# Altium integrated library WE-VS_rev15b.intlib: 55 symbols
Pins are listed as number, name and electrical type; pins without a type are passive.

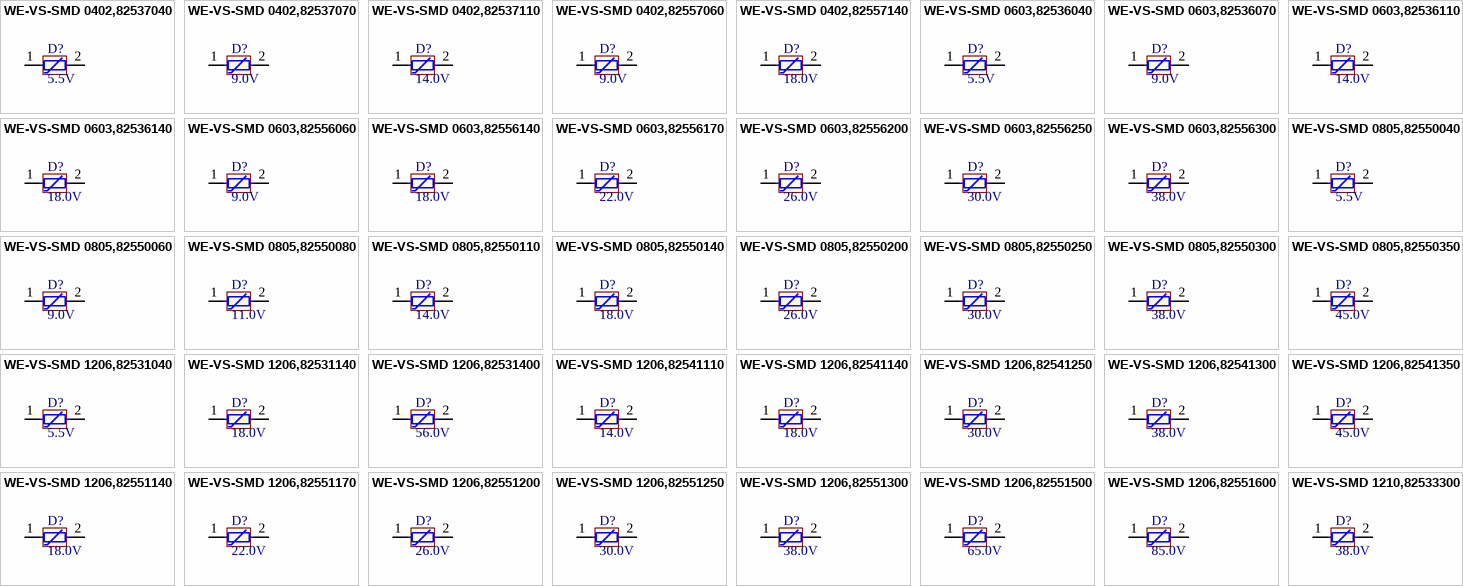
[diagram p0: symbols WE-VS-SMD 0402,82537040 to WE-VS-SMD 1210,82533300]

## WE-VS-SMD 0402,82537040
designator D?, comment 5.5V
ESD Suppressor WE-VS-SMD, VDC=5.5V; PartNo: 82537040; Manufacturer: Würth Elektronik eiSos GmbH; Reverse Stand Off Voltage: 5.5V; ComponentLink1Description: Manufacturer; ComponentLink1URL: http://www.we-online.de; Created by: Christin Zierenner; Created Date: March 2010; ComponentLink2Description: Datasheet; ComponentLink2URL: http://katalog.we-online.de/kataloge/eisos/media/pdf/82537040.pdf
footprint 0402 (0402, 2-Leads, Body 2.3x0.7mm, Pitch 1.4mm)
pins: 1 I/O1, 2 I/O1

## WE-VS-SMD 0402,82537070
designator D?, comment 9.0V
ESD Suppressor WE-VS-SMD, VDC=9.0V; PartNo: 82537070; Manufacturer: Würth Elektronik eiSos GmbH; Reverse Stand Off Voltage: 9.0V; ComponentLink1Description: Manufacturer; ComponentLink1URL: http://www.we-online.de; Created by: Christin Zierenner; Created Date: March 2010; ComponentLink2Description: Datasheet; ComponentLink2URL: http://katalog.we-online.de/kataloge/eisos/media/pdf/82537070.pdf
footprint 0402 (0402, 2-Leads, Body 2.3x0.7mm, Pitch 1.4mm)
pins: 1 I/O1, 2 I/O1

## WE-VS-SMD 0402,82537110
designator D?, comment 14.0V
ESD Suppressor WE-VS-SMD, VDC=14.0V; PartNo: 82537110; Manufacturer: Würth Elektronik eiSos GmbH; Reverse Stand Off Voltage: 14.0V; ComponentLink1Description: Manufacturer; ComponentLink1URL: http://www.we-online.de; Created by: Christin Zierenner; Created Date: March 2010; ComponentLink2Description: Datasheet; ComponentLink2URL: http://katalog.we-online.de/kataloge/eisos/media/pdf/82537110.pdf
footprint 0402 (0402, 2-Leads, Body 2.3x0.7mm, Pitch 1.4mm)
pins: 1 I/O1, 2 I/O1

## WE-VS-SMD 0402,82557060
designator D?, comment 9.0V
ESD Suppressor WE-VS-SMD, VDC=9.0V; PartNo: 82557060; Manufacturer: Würth Elektronik eiSos GmbH; Reverse Stand Off Voltage: 9.0V; ComponentLink1Description: Manufacturer; ComponentLink1URL: http://www.we-online.de; Created by: Christin Zierenner; Created Date: March 2010; ComponentLink2Description: Datasheet; ComponentLink2URL: http://katalog.we-online.de/kataloge/eisos/media/pdf/82557060.pdf
footprint 0402 (0402, 2-Leads, Body 2.3x0.7mm, Pitch 1.4mm)
pins: 1 I/O1, 2 I/O1

## WE-VS-SMD 0402,82557140
designator D?, comment 18.0V
ESD Suppressor WE-VS-SMD, VDC=18.0V; PartNo: 82557140; Manufacturer: Würth Elektronik eiSos GmbH; Reverse Stand Off Voltage: 18.0V; ComponentLink1Description: Manufacturer; ComponentLink1URL: http://www.we-online.de; Created by: Christin Zierenner; Created Date: March 2010; ComponentLink2Description: Datasheet; ComponentLink2URL: http://katalog.we-online.de/kataloge/eisos/media/pdf/82557140.pdf
footprint 0402 (0402, 2-Leads, Body 2.3x0.7mm, Pitch 1.4mm)
pins: 1 I/O1, 2 I/O1

## WE-VS-SMD 0603,82536040
designator D?, comment 5.5V
ESD Suppressor WE-VS-SMD, VDC=5.5V; PartNo: 82536040; Manufacturer: Würth Elektronik eiSos GmbH; Reverse Stand Off Voltage: 5.5V; ComponentLink1Description: Manufacturer; ComponentLink1URL: http://www.we-online.de; Created by: Christin Zierenner; Created Date: March 2010; ComponentLink2Description: Datasheet; ComponentLink2URL: http://katalog.we-online.de/kataloge/eisos/media/pdf/82536040.pdf
footprint 0603 (0603, 2-Leads, Body 3.6x1.4mm, Pitch 2.3mm)
pins: 1 I/O1, 2 I/O1

## WE-VS-SMD 0603,82536070
designator D?, comment 9.0V
ESD Suppressor WE-VS-SMD, VDC=9.0V; PartNo: 82536070; Manufacturer: Würth Elektronik eiSos GmbH; Reverse Stand Off Voltage: 9.0V; ComponentLink1Description: Manufacturer; ComponentLink1URL: http://www.we-online.de; Created by: Christin Zierenner; Created Date: March 2010; ComponentLink2Description: Datasheet; ComponentLink2URL: http://katalog.we-online.de/kataloge/eisos/media/pdf/82536070.pdf
footprint 0603 (0603, 2-Leads, Body 3.6x1.4mm, Pitch 2.3mm)
pins: 1 I/O1, 2 I/O1

## WE-VS-SMD 0603,82536110
designator D?, comment 14.0V
ESD Suppressor WE-VS-SMD, VDC=14.0V; PartNo: 82536110; Manufacturer: Würth Elektronik eiSos GmbH; Reverse Stand Off Voltage: 14.0V; ComponentLink1Description: Manufacturer; ComponentLink1URL: http://www.we-online.de; Created by: Christin Zierenner; Created Date: March 2010; ComponentLink2Description: Datasheet; ComponentLink2URL: http://katalog.we-online.de/kataloge/eisos/media/pdf/82536110.pdf
footprint 0603 (0603, 2-Leads, Body 3.6x1.4mm, Pitch 2.3mm)
pins: 1 I/O1, 2 I/O1

## WE-VS-SMD 0603,82536140
designator D?, comment 18.0V
ESD Suppressor WE-VS-SMD, VDC=18.0V; PartNo: 82536140; Manufacturer: Würth Elektronik eiSos GmbH; Reverse Stand Off Voltage: 18.0V; ComponentLink1Description: Manufacturer; ComponentLink1URL: http://www.we-online.de; Created by: Christin Zierenner; Created Date: March 2010; ComponentLink2Description: Datasheet; ComponentLink2URL: http://katalog.we-online.de/kataloge/eisos/media/pdf/82536140.pdf
footprint 0603 (0603, 2-Leads, Body 3.6x1.4mm, Pitch 2.3mm)
pins: 1 I/O1, 2 I/O1

## WE-VS-SMD 0603,82556060
designator D?, comment 9.0V
ESD Suppressor WE-VS-SMD, VDC=9.0V; PartNo: 82556060; Manufacturer: Würth Elektronik eiSos GmbH; Reverse Stand Off Voltage: 9.0V; ComponentLink1Description: Manufacturer; ComponentLink1URL: http://www.we-online.de; Created by: Christin Zierenner; Created Date: March 2010; ComponentLink2Description: Datasheet; ComponentLink2URL: http://katalog.we-online.de/kataloge/eisos/media/pdf/82556060.pdf
footprint 0603 (0603, 2-Leads, Body 3.6x1.4mm, Pitch 2.3mm)
pins: 1 I/O1, 2 I/O1

## WE-VS-SMD 0603,82556140
designator D?, comment 18.0V
ESD Suppressor WE-VS-SMD, VDC=18.0V; PartNo: 82556140; Manufacturer: Würth Elektronik eiSos GmbH; Reverse Stand Off Voltage: 18.0V; ComponentLink1Description: Manufacturer; ComponentLink1URL: http://www.we-online.de; Created by: Christin Zierenner; Created Date: March 2010; ComponentLink2Description: Datasheet; ComponentLink2URL: http://katalog.we-online.de/kataloge/eisos/media/pdf/82556140.pdf
footprint 0603 (0603, 2-Leads, Body 3.6x1.4mm, Pitch 2.3mm)
pins: 1 I/O1, 2 I/O1

## WE-VS-SMD 0603,82556170
designator D?, comment 22.0V
ESD Suppressor WE-VS-SMD, VDC=22.0V; PartNo: 82556170; Manufacturer: Würth Elektronik eiSos GmbH; Reverse Stand Off Voltage: 22.0V; ComponentLink1Description: Manufacturer; ComponentLink1URL: http://www.we-online.de; Created by: Christin Zierenner; Created Date: March 2010; ComponentLink2Description: Datasheet; ComponentLink2URL: http://katalog.we-online.de/kataloge/eisos/media/pdf/82556170.pdf
footprint 0603 (0603, 2-Leads, Body 3.6x1.4mm, Pitch 2.3mm)
pins: 1 I/O1, 2 I/O1

## WE-VS-SMD 0603,82556200
designator D?, comment 26.0V
ESD Suppressor WE-VS-SMD, VDC=26.0V; PartNo: 82556200; Manufacturer: Würth Elektronik eiSos GmbH; Reverse Stand Off Voltage: 26.0V; ComponentLink1Description: Manufacturer; ComponentLink1URL: http://www.we-online.de; Created by: Christin Zierenner; Created Date: March 2010; ComponentLink2Description: Datasheet; ComponentLink2URL: http://katalog.we-online.de/kataloge/eisos/media/pdf/82556200.pdf
footprint 0603 (0603, 2-Leads, Body 3.6x1.4mm, Pitch 2.3mm)
pins: 1 I/O1, 2 I/O1

## WE-VS-SMD 0603,82556250
designator D?, comment 30.0V
ESD Suppressor WE-VS-SMD, VDC=30.0V; PartNo: 82556250; Manufacturer: Würth Elektronik eiSos GmbH; Reverse Stand Off Voltage: 30.0V; ComponentLink1Description: Manufacturer; ComponentLink1URL: http://www.we-online.de; Created by: Christin Zierenner; Created Date: March 2010; ComponentLink2Description: Datasheet; ComponentLink2URL: http://katalog.we-online.de/kataloge/eisos/media/pdf/82556250.pdf
footprint 0603 (0603, 2-Leads, Body 3.6x1.4mm, Pitch 2.3mm)
pins: 1 I/O1, 2 I/O1

## WE-VS-SMD 0603,82556300
designator D?, comment 38.0V
ESD Suppressor WE-VS-SMD, VDC=38.0V; PartNo: 82556300; Manufacturer: Würth Elektronik eiSos GmbH; Reverse Stand Off Voltage: 38.0V; ComponentLink1Description: Manufacturer; ComponentLink1URL: http://www.we-online.de; Created by: Christin Zierenner; Created Date: March 2010; ComponentLink2Description: Datasheet; ComponentLink2URL: http://katalog.we-online.de/kataloge/eisos/media/pdf/82556300.pdf
footprint 0603 (0603, 2-Leads, Body 3.6x1.4mm, Pitch 2.3mm)
pins: 1 I/O1, 2 I/O1

## WE-VS-SMD 0805,82550040
designator D?, comment 5.5V
ESD Suppressor WE-VS-SMD, VDC=5.5V; PartNo: 82550040; Manufacturer: Würth Elektronik eiSos GmbH; Reverse Stand Off Voltage: 5.5V; ComponentLink1Description: Manufacturer; ComponentLink1URL: http://www.we-online.de; Created by: Christin Zierenner; Created Date: March 2010; ComponentLink2Description: Datasheet; ComponentLink2URL: http://katalog.we-online.de/kataloge/eisos/media/pdf/82550040.pdf
footprint 0805 (0805, 2-Leads, Body 4.7x1.8mm, Pitch 3mm)
pins: 1 I/O1, 2 I/O1

## WE-VS-SMD 0805,82550060
designator D?, comment 9.0V
ESD Suppressor WE-VS-SMD, VDC=9.0V; PartNo: 82550060; Manufacturer: Würth Elektronik eiSos GmbH; Reverse Stand Off Voltage: 9.0V; ComponentLink1Description: Manufacturer; ComponentLink1URL: http://www.we-online.de; Created by: Christin Zierenner; Created Date: March 2010; ComponentLink2Description: Datasheet; ComponentLink2URL: http://katalog.we-online.de/kataloge/eisos/media/pdf/82550060.pdf
footprint 0805 (0805, 2-Leads, Body 4.7x1.8mm, Pitch 3mm)
pins: 1 I/O1, 2 I/O1

## WE-VS-SMD 0805,82550080
designator D?, comment 11.0V
ESD Suppressor WE-VS-SMD, VDC=11.0V; PartNo: 82550080; Manufacturer: Würth Elektronik eiSos GmbH; Reverse Stand Off Voltage: 11.0V; ComponentLink1Description: Manufacturer; ComponentLink1URL: http://www.we-online.de; Created by: Christin Zierenner; Created Date: March 2010; ComponentLink2Description: Datasheet; ComponentLink2URL: http://katalog.we-online.de/kataloge/eisos/media/pdf/82550080.pdf
footprint 0805 (0805, 2-Leads, Body 4.7x1.8mm, Pitch 3mm)
pins: 1 I/O1, 2 I/O1

## WE-VS-SMD 0805,82550110
designator D?, comment 14.0V
ESD Suppressor WE-VS-SMD, VDC=14.0V; PartNo: 82550110; Manufacturer: Würth Elektronik eiSos GmbH; Reverse Stand Off Voltage: 14.0V; ComponentLink1Description: Manufacturer; ComponentLink1URL: http://www.we-online.de; Created by: Christin Zierenner; Created Date: March 2010; ComponentLink2Description: Datasheet; ComponentLink2URL: http://katalog.we-online.de/kataloge/eisos/media/pdf/82550110.pdf
footprint 0805 (0805, 2-Leads, Body 4.7x1.8mm, Pitch 3mm)
pins: 1 I/O1, 2 I/O1

## WE-VS-SMD 0805,82550140
designator D?, comment 18.0V
ESD Suppressor WE-VS-SMD, VDC=18.0V; PartNo: 82550140; Manufacturer: Würth Elektronik eiSos GmbH; Reverse Stand Off Voltage: 18.0V; ComponentLink1Description: Manufacturer; ComponentLink1URL: http://www.we-online.de; Created by: Christin Zierenner; Created Date: March 2010; ComponentLink2Description: Datasheet; ComponentLink2URL: http://katalog.we-online.de/kataloge/eisos/media/pdf/82550140.pdf
footprint 0805 (0805, 2-Leads, Body 4.7x1.8mm, Pitch 3mm)
pins: 1 I/O1, 2 I/O1

## WE-VS-SMD 0805,82550200
designator D?, comment 26.0V
ESD Suppressor WE-VS-SMD, VDC=26.0V; PartNo: 82550200; Manufacturer: Würth Elektronik eiSos GmbH; Reverse Stand Off Voltage: 26.0V; ComponentLink1Description: Manufacturer; ComponentLink1URL: http://www.we-online.de; Created by: Christin Zierenner; Created Date: March 2010; ComponentLink2Description: Datasheet; ComponentLink2URL: http://katalog.we-online.de/kataloge/eisos/media/pdf/82550200.pdf
footprint 0805 (0805, 2-Leads, Body 4.7x1.8mm, Pitch 3mm)
pins: 1 I/O1, 2 I/O1

## WE-VS-SMD 0805,82550250
designator D?, comment 30.0V
ESD Suppressor WE-VS-SMD, VDC=30.0V; PartNo: 82550250; Manufacturer: Würth Elektronik eiSos GmbH; Reverse Stand Off Voltage: 30.0V; ComponentLink1Description: Manufacturer; ComponentLink1URL: http://www.we-online.de; Created by: Christin Zierenner; Created Date: March 2010; ComponentLink2Description: Datasheet; ComponentLink2URL: http://katalog.we-online.de/kataloge/eisos/media/pdf/82550250.pdf
footprint 0805 (0805, 2-Leads, Body 4.7x1.8mm, Pitch 3mm)
pins: 1 I/O1, 2 I/O1

## WE-VS-SMD 0805,82550300
designator D?, comment 38.0V
ESD Suppressor WE-VS-SMD, VDC=38.0V; PartNo: 82550300; Manufacturer: Würth Elektronik eiSos GmbH; Reverse Stand Off Voltage: 38.0V; ComponentLink1Description: Manufacturer; ComponentLink1URL: http://www.we-online.de; Created by: Christin Zierenner; Created Date: March 2010; ComponentLink2Description: Datasheet; ComponentLink2URL: http://katalog.we-online.de/kataloge/eisos/media/pdf/82550300.pdf
footprint 0805 (0805, 2-Leads, Body 4.7x1.8mm, Pitch 3mm)
pins: 1 I/O1, 2 I/O1

## WE-VS-SMD 0805,82550350
designator D?, comment 45.0V
ESD Suppressor WE-VS-SMD, VDC=45.0V; PartNo: 82550350; Manufacturer: Würth Elektronik eiSos GmbH; Reverse Stand Off Voltage: 45.0V; ComponentLink1Description: Manufacturer; ComponentLink1URL: http://www.we-online.de; Created by: Christin Zierenner; Created Date: March 2010; ComponentLink2Description: Datasheet; ComponentLink2URL: http://katalog.we-online.de/kataloge/eisos/media/pdf/82550350.pdf
footprint 0805 (0805, 2-Leads, Body 4.7x1.8mm, Pitch 3mm)
pins: 1 I/O1, 2 I/O1

## WE-VS-SMD 1206,82531040
designator D?, comment 5.5V
ESD Suppressor WE-VS-SMD, VDC=5.5V; PartNo: 82531040; Manufacturer: Würth Elektronik eiSos GmbH; Reverse Stand Off Voltage: 5.5V; ComponentLink1Description: Manufacturer; ComponentLink1URL: http://www.we-online.de; Created by: Christin Zierenner; Created Date: March 2010; ComponentLink2Description: Datasheet; ComponentLink2URL: http://katalog.we-online.de/kataloge/eisos/media/pdf/82531040.pdf
footprint 1206 (1206,2-Leads, Body 6.5x2.2mm, Pitch 2.7mm)
pins: 1 I/O1, 2 I/O1

## WE-VS-SMD 1206,82531140
designator D?, comment 18.0V
ESD Suppressor WE-VS-SMD, VDC=18.0V; PartNo: 82531140; Manufacturer: Würth Elektronik eiSos GmbH; Reverse Stand Off Voltage: 18.0V; ComponentLink1Description: Manufacturer; ComponentLink1URL: http://www.we-online.de; Created by: Christin Zierenner; Created Date: March 2010; ComponentLink2Description: Datasheet; ComponentLink2URL: http://katalog.we-online.de/kataloge/eisos/media/pdf/82531140.pdf
footprint 1206 (1206,2-Leads, Body 6.5x2.2mm, Pitch 2.7mm)
pins: 1 I/O1, 2 I/O1

## WE-VS-SMD 1206,82531400
designator D?, comment 56.0V
ESD Suppressor WE-VS-SMD, VDC=5.5V; PartNo: 82531400; Manufacturer: Würth Elektronik eiSos GmbH; Reverse Stand Off Voltage: 56.0V; ComponentLink1Description: Manufacturer; ComponentLink1URL: http://www.we-online.de; Created by: Christin Zierenner; Created Date: March 2010; ComponentLink2Description: Datasheet; ComponentLink2URL: http://katalog.we-online.de/kataloge/eisos/media/pdf/82531400.pdf
footprint 1206 (1206,2-Leads, Body 6.5x2.2mm, Pitch 2.7mm)
pins: 1 I/O1, 2 I/O1

## WE-VS-SMD 1206,82541110
designator D?, comment 14.0V
ESD Suppressor WE-VS-SMD, VDC=14.0V; PartNo: 82541110; Manufacturer: Würth Elektronik eiSos GmbH; Reverse Stand Off Voltage: 14.0V; ComponentLink1Description: Manufacturer; ComponentLink1URL: http://www.we-online.de; Created by: Christin Zierenner; Created Date: March 2010; ComponentLink2Description: Datasheet; ComponentLink2URL: http://katalog.we-online.de/kataloge/eisos/media/pdf/82541110.pdf
footprint 1206 (1206,2-Leads, Body 6.5x2.2mm, Pitch 2.7mm)
pins: 1 I/O1, 2 I/O1

## WE-VS-SMD 1206,82541140
designator D?, comment 18.0V
ESD Suppressor WE-VS-SMD, VDC=18.0V; PartNo: 82541140; Manufacturer: Würth Elektronik eiSos GmbH; Reverse Stand Off Voltage: 18.0V; ComponentLink1Description: Manufacturer; ComponentLink1URL: http://www.we-online.de; Created by: Christin Zierenner; Created Date: March 2010; ComponentLink2Description: Datasheet; ComponentLink2URL: http://katalog.we-online.de/kataloge/eisos/media/pdf/82541140.pdf
footprint 1206 (1206,2-Leads, Body 6.5x2.2mm, Pitch 2.7mm)
pins: 1 I/O1, 2 I/O1

## WE-VS-SMD 1206,82541250
designator D?, comment 30.0V
ESD Suppressor WE-VS-SMD, VDC=30.0V; PartNo: 82541250; Manufacturer: Würth Elektronik eiSos GmbH; Reverse Stand Off Voltage: 30.0V; ComponentLink1Description: Manufacturer; ComponentLink1URL: http://www.we-online.de; Created by: Christin Zierenner; Created Date: March 2010; ComponentLink2Description: Datasheet; ComponentLink2URL: http://katalog.we-online.de/kataloge/eisos/media/pdf/82541250.pdf
footprint 1206 (1206,2-Leads, Body 6.5x2.2mm, Pitch 2.7mm)
pins: 1 I/O1, 2 I/O1

## WE-VS-SMD 1206,82541300
designator D?, comment 38.0V
ESD Suppressor WE-VS-SMD, VDC=38.0V; PartNo: 82541300; Manufacturer: Würth Elektronik eiSos GmbH; Reverse Stand Off Voltage: 38.0V; ComponentLink1Description: Manufacturer; ComponentLink1URL: http://www.we-online.de; Created by: Christin Zierenner; Created Date: March 2010; ComponentLink2Description: Datasheet; ComponentLink2URL: http://katalog.we-online.de/kataloge/eisos/media/pdf/82541300.pdf
footprint 1206 (1206,2-Leads, Body 6.5x2.2mm, Pitch 2.7mm)
pins: 1 I/O1, 2 I/O1

## WE-VS-SMD 1206,82541350
designator D?, comment 45.0V
ESD Suppressor WE-VS-SMD, VDC=45.0V; PartNo: 82541350; Manufacturer: Würth Elektronik eiSos GmbH; Reverse Stand Off Voltage: 45.0V; ComponentLink1Description: Manufacturer; ComponentLink1URL: http://www.we-online.de; Created by: Christin Zierenner; Created Date: March 2010; ComponentLink2Description: Datasheet; ComponentLink2URL: http://katalog.we-online.de/kataloge/eisos/media/pdf/82541350.pdf
footprint 1206 (1206,2-Leads, Body 6.5x2.2mm, Pitch 2.7mm)
pins: 1 I/O1, 2 I/O1

## WE-VS-SMD 1206,82551140
designator D?, comment 18.0V
ESD Suppressor WE-VS-SMD, VDC=18.0V; PartNo: 82551140; Manufacturer: Würth Elektronik eiSos GmbH; Reverse Stand Off Voltage: 18.0V; ComponentLink1Description: Manufacturer; ComponentLink1URL: http://www.we-online.de; Created by: Christin Zierenner; Created Date: March 2010; ComponentLink2Description: Datasheet; ComponentLink2URL: http://katalog.we-online.de/kataloge/eisos/media/pdf/82551140.pdf
footprint 1206 (1206,2-Leads, Body 6.5x2.2mm, Pitch 2.7mm)
pins: 1 I/O1, 2 I/O1

## WE-VS-SMD 1206,82551170
designator D?, comment 22.0V
ESD Suppressor WE-VS-SMD, VDC=22.0V; PartNo: 82551170; Manufacturer: Würth Elektronik eiSos GmbH; Reverse Stand Off Voltage: 22.0V; ComponentLink1Description: Manufacturer; ComponentLink1URL: http://www.we-online.de; Created by: Christin Zierenner; Created Date: March 2010; ComponentLink2Description: Datasheet; ComponentLink2URL: http://katalog.we-online.de/kataloge/eisos/media/pdf/82551170.pdf
footprint 1206 (1206,2-Leads, Body 6.5x2.2mm, Pitch 2.7mm)
pins: 1 I/O1, 2 I/O1

## WE-VS-SMD 1206,82551200
designator D?, comment 26.0V
ESD Suppressor WE-VS-SMD, VDC=26.0V; PartNo: 82551200; Manufacturer: Würth Elektronik eiSos GmbH; Reverse Stand Off Voltage: 26.0V; ComponentLink1Description: Manufacturer; ComponentLink1URL: http://www.we-online.de; Created by: Christin Zierenner; Created Date: March 2010; ComponentLink2Description: Datasheet; ComponentLink2URL: http://katalog.we-online.de/kataloge/eisos/media/pdf/82551200.pdf
footprint 1206 (1206,2-Leads, Body 6.5x2.2mm, Pitch 2.7mm)
pins: 1 I/O1, 2 I/O1

## WE-VS-SMD 1206,82551250
designator D?, comment 30.0V
ESD Suppressor WE-VS-SMD, VDC=30.0V; PartNo: 82551250; Manufacturer: Würth Elektronik eiSos GmbH; Reverse Stand Off Voltage: 30.0V; ComponentLink1Description: Manufacturer; ComponentLink1URL: http://www.we-online.de; Created by: Christin Zierenner; Created Date: March 2010; ComponentLink2Description: Datasheet; ComponentLink2URL: http://katalog.we-online.de/kataloge/eisos/media/pdf/82551250.pdf
footprint 1206 (1206,2-Leads, Body 6.5x2.2mm, Pitch 2.7mm)
pins: 1 I/O1, 2 I/O1

## WE-VS-SMD 1206,82551300
designator D?, comment 38.0V
ESD Suppressor WE-VS-SMD, VDC=38.0V; PartNo: 82551300; Manufacturer: Würth Elektronik eiSos GmbH; Reverse Stand Off Voltage: 38.0V; ComponentLink1Description: Manufacturer; ComponentLink1URL: http://www.we-online.de; Created by: Christin Zierenner; Created Date: March 2010; ComponentLink2Description: Datasheet; ComponentLink2URL: http://katalog.we-online.de/kataloge/eisos/media/pdf/82551300.pdf
footprint 1206 (1206,2-Leads, Body 6.5x2.2mm, Pitch 2.7mm)
pins: 1 I/O1, 2 I/O1

## WE-VS-SMD 1206,82551500
designator D?, comment 65.0V
ESD Suppressor WE-VS-SMD, VDC=65.0V; PartNo: 82551500; Manufacturer: Würth Elektronik eiSos GmbH; Reverse Stand Off Voltage: 65.0V; ComponentLink1Description: Manufacturer; ComponentLink1URL: http://www.we-online.de; Created by: Christin Zierenner; Created Date: March 2010; ComponentLink2Description: Datasheet; ComponentLink2URL: http://katalog.we-online.de/kataloge/eisos/media/pdf/82551500.pdf
footprint 1206 (1206,2-Leads, Body 6.5x2.2mm, Pitch 2.7mm)
pins: 1 I/O1, 2 I/O1

## WE-VS-SMD 1206,82551600
designator D?, comment 85.0V
ESD Suppressor WE-VS-SMD, VDC=85.0V; PartNo: 82551600; Manufacturer: Würth Elektronik eiSos GmbH; Reverse Stand Off Voltage: 85.0V; ComponentLink1Description: Manufacturer; ComponentLink1URL: http://www.we-online.de; Created by: Christin Zierenner; Created Date: March 2010; ComponentLink2Description: Datasheet; ComponentLink2URL: http://katalog.we-online.de/kataloge/eisos/media/pdf/82551600.pdf
footprint 1206 (1206,2-Leads, Body 6.5x2.2mm, Pitch 2.7mm)
pins: 1 I/O1, 2 I/O1

## WE-VS-SMD 1210,82533300
designator D?, comment 38.0V
ESD Suppressor WE-VS-SMD, VDC=38.0V; PartNo: 82533300; Manufacturer: Würth Elektronik eiSos GmbH; Reverse Stand Off Voltage: 38.0V; ComponentLink1Description: Manufacturer; ComponentLink1URL: http://www.we-online.de; Created by: Christin Zierenner; Created Date: March 2010; ComponentLink2Description: Datasheet; ComponentLink2URL: http://katalog.we-online.de/kataloge/eisos/media/pdf/82533300.pdf
footprint 1210 (1210, 2-Leads, Body 6.9x3.3mm, Pitch 4.5mm)
pins: 1 I/O1, 2 I/O1

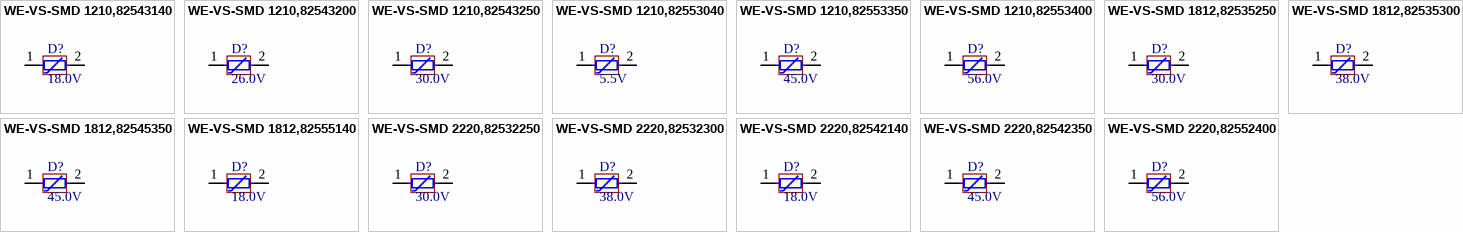
[diagram p1: symbols WE-VS-SMD 1210,82543140 to WE-VS-SMD 2220,82552400]

## WE-VS-SMD 1210,82543140
designator D?, comment 18.0V
ESD Suppressor WE-VS-SMD, VDC=18.0V; PartNo: 82543140; Manufacturer: Würth Elektronik eiSos GmbH; Reverse Stand Off Voltage: 18.0V; ComponentLink1Description: Manufacturer; ComponentLink1URL: http://www.we-online.de; Created by: Christin Zierenner; Created Date: March 2010; ComponentLink2Description: Datasheet; ComponentLink2URL: http://katalog.we-online.de/kataloge/eisos/media/pdf/82543140.pdf
footprint 1210 (1210, 2-Leads, Body 6.9x3.3mm, Pitch 4.5mm)
pins: 1 I/O1, 2 I/O1

## WE-VS-SMD 1210,82543200
designator D?, comment 26.0V
ESD Suppressor WE-VS-SMD, VDC=26.0V; PartNo: 82543200; Manufacturer: Würth Elektronik eiSos GmbH; Reverse Stand Off Voltage: 26.0V; ComponentLink1Description: Manufacturer; ComponentLink1URL: http://www.we-online.de; Created by: Christin Zierenner; Created Date: March 2010; ComponentLink2Description: Datasheet; ComponentLink2URL: http://katalog.we-online.de/kataloge/eisos/media/pdf/82543200.pdf
footprint 1210 (1210, 2-Leads, Body 6.9x3.3mm, Pitch 4.5mm)
pins: 1 I/O1, 2 I/O1

## WE-VS-SMD 1210,82543250
designator D?, comment 30.0V
ESD Suppressor WE-VS-SMD, VDC=30.0V; PartNo: 82543250; Manufacturer: Würth Elektronik eiSos GmbH; Reverse Stand Off Voltage: 30.0V; ComponentLink1Description: Manufacturer; ComponentLink1URL: http://www.we-online.de; Created by: Christin Zierenner; Created Date: March 2010; ComponentLink2Description: Datasheet; ComponentLink2URL: http://katalog.we-online.de/kataloge/eisos/media/pdf/82543250.pdf
footprint 1210 (1210, 2-Leads, Body 6.9x3.3mm, Pitch 4.5mm)
pins: 1 I/O1, 2 I/O1

## WE-VS-SMD 1210,82553040
designator D?, comment 5.5V
ESD Suppressor WE-VS-SMD, VDC=5.5V; PartNo: 82553040; Manufacturer: Würth Elektronik eiSos GmbH; Reverse Stand Off Voltage: 5.5V; ComponentLink1Description: Manufacturer; ComponentLink1URL: http://www.we-online.de; Created by: Christin Zierenner; Created Date: March 2010; ComponentLink2Description: Datasheet; ComponentLink2URL: http://katalog.we-online.de/kataloge/eisos/media/pdf/82553040.pdf
footprint 1210 (1210, 2-Leads, Body 6.9x3.3mm, Pitch 4.5mm)
pins: 1 I/O1, 2 I/O1

## WE-VS-SMD 1210,82553350
designator D?, comment 45.0V
ESD Suppressor WE-VS-SMD, VDC=45.0V; PartNo: 82553350; Manufacturer: Würth Elektronik eiSos GmbH; Reverse Stand Off Voltage: 45.0V; ComponentLink1Description: Manufacturer; ComponentLink1URL: http://www.we-online.de; Created by: Christin Zierenner; Created Date: March 2010; ComponentLink2Description: Datasheet; ComponentLink2URL: http://katalog.we-online.de/kataloge/eisos/media/pdf/82553350.pdf
footprint 1210 (1210, 2-Leads, Body 6.9x3.3mm, Pitch 4.5mm)
pins: 1 I/O1, 2 I/O1

## WE-VS-SMD 1210,82553400
designator D?, comment 56.0V
ESD Suppressor WE-VS-SMD, VDC=56.0V; PartNo: 82553400; Manufacturer: Würth Elektronik eiSos GmbH; Reverse Stand Off Voltage: 56.0V; ComponentLink1Description: Manufacturer; ComponentLink1URL: http://www.we-online.de; Created by: Christin Zierenner; Created Date: March 2010; ComponentLink2Description: Datasheet; ComponentLink2URL: http://katalog.we-online.de/kataloge/eisos/media/pdf/82553400.pdf
footprint 1210 (1210, 2-Leads, Body 6.9x3.3mm, Pitch 4.5mm)
pins: 1 I/O1, 2 I/O1

## WE-VS-SMD 1812,82535250
designator D?, comment 30.0V
ESD Suppressor WE-VS-SMD, VDC=30.0V; PartNo: 82535250; Manufacturer: Würth Elektronik eiSos GmbH; Reverse Stand Off Voltage: 30.0V; ComponentLink1Description: Manufacturer; ComponentLink1URL: http://www.we-online.de; Created by: Christin Zierenner; Created Date: March 2010; ComponentLink2Description: Datasheet; ComponentLink2URL: http://katalog.we-online.de/kataloge/eisos/media/pdf/82535250.pdf
footprint 1812 (1812, 2-Leads, Body 8.2x3.9mm, Pitch 5.6mm)
pins: 1 I/O1, 2 I/O1

## WE-VS-SMD 1812,82535300
designator D?, comment 38.0V
ESD Suppressor WE-VS-SMD, VDC=38.0V; PartNo: 82535300; Manufacturer: Würth Elektronik eiSos GmbH; Reverse Stand Off Voltage: 38.0V; ComponentLink1Description: Manufacturer; ComponentLink1URL: http://www.we-online.de; Created by: Christin Zierenner; Created Date: March 2010; ComponentLink2Description: Datasheet; ComponentLink2URL: http://katalog.we-online.de/kataloge/eisos/media/pdf/82535300.pdf
footprint 1812 (1812, 2-Leads, Body 8.2x3.9mm, Pitch 5.6mm)
pins: 1 I/O1, 2 I/O1

## WE-VS-SMD 1812,82545350
designator D?, comment 45.0V
ESD Suppressor WE-VS-SMD, VDC=45.0V; PartNo: 82545350; Manufacturer: Würth Elektronik eiSos GmbH; Reverse Stand Off Voltage: 45.0V; ComponentLink1Description: Manufacturer; ComponentLink1URL: http://www.we-online.de; Created by: Christin Zierenner; Created Date: March 2010; ComponentLink2Description: Datasheet; ComponentLink2URL: http://katalog.we-online.de/kataloge/eisos/media/pdf/82545350.pdf
footprint 1812 (1812, 2-Leads, Body 8.2x3.9mm, Pitch 5.6mm)
pins: 1 I/O1, 2 I/O1

## WE-VS-SMD 1812,82555140
designator D?, comment 18.0V
ESD Suppressor WE-VS-SMD, VDC=18.0V; PartNo: 82555140; Manufacturer: Würth Elektronik eiSos GmbH; Reverse Stand Off Voltage: 18.0V; ComponentLink1Description: Manufacturer; ComponentLink1URL: http://www.we-online.de; Created by: Christin Zierenner; Created Date: March 2010; ComponentLink2Description: Datasheet; ComponentLink2URL: http://katalog.we-online.de/kataloge/eisos/media/pdf/82555140.pdf
footprint 1812 (1812, 2-Leads, Body 8.2x3.9mm, Pitch 5.6mm)
pins: 1 I/O1, 2 I/O1

## WE-VS-SMD 2220,82532250
designator D?, comment 30.0V
ESD Suppressor WE-VS-SMD, VDC=30.0V; PartNo: 82532250; Manufacturer: Würth Elektronik eiSos GmbH; Reverse Stand Off Voltage: 30.0V; ComponentLink1Description: Manufacturer; ComponentLink1URL: http://www.we-online.de; Created by: Christin Zierenner; Created Date: March 2010; ComponentLink2Description: Datasheet; ComponentLink2URL: http://katalog.we-online.de/kataloge/eisos/media/pdf/82532250.pdf
footprint 2220 (2220, 2-Leads, Body 9.4x5.7mm, Pitch 6.7mm)
pins: 1 I/O1, 2 I/O1

## WE-VS-SMD 2220,82532300
designator D?, comment 38.0V
ESD Suppressor WE-VS-SMD, VDC=38.0V; PartNo: 82532300; Manufacturer: Würth Elektronik eiSos GmbH; Reverse Stand Off Voltage: 38.0V; ComponentLink1Description: Manufacturer; ComponentLink1URL: http://www.we-online.de; Created by: Christin Zierenner; Created Date: March 2010; ComponentLink2Description: Datasheet; ComponentLink2URL: http://katalog.we-online.de/kataloge/eisos/media/pdf/82532300.pdf
footprint 2220 (2220, 2-Leads, Body 9.4x5.7mm, Pitch 6.7mm)
pins: 1 I/O1, 2 I/O1

## WE-VS-SMD 2220,82542140
designator D?, comment 18.0V
ESD Suppressor WE-VS-SMD, VDC=18.0V; PartNo: 82542140; Manufacturer: Würth Elektronik eiSos GmbH; Reverse Stand Off Voltage: 18.0V; ComponentLink1Description: Manufacturer; ComponentLink1URL: http://www.we-online.de; Created by: Christin Zierenner; Created Date: March 2010; ComponentLink2Description: Datasheet; ComponentLink2URL: http://katalog.we-online.de/kataloge/eisos/media/pdf/82542140.pdf
footprint 2220 (2220, 2-Leads, Body 9.4x5.7mm, Pitch 6.7mm)
pins: 1 I/O1, 2 I/O1

## WE-VS-SMD 2220,82542350
designator D?, comment 45.0V
ESD Suppressor WE-VS-SMD, VDC=45.0V; PartNo: 82542350; Manufacturer: Würth Elektronik eiSos GmbH; Reverse Stand Off Voltage: 45.0V; ComponentLink1Description: Manufacturer; ComponentLink1URL: http://www.we-online.de; Created by: Christin Zierenner; Created Date: March 2010; ComponentLink2Description: Datasheet; ComponentLink2URL: http://katalog.we-online.de/kataloge/eisos/media/pdf/82542350.pdf
footprint 2220 (2220, 2-Leads, Body 9.4x5.7mm, Pitch 6.7mm)
pins: 1 I/O1, 2 I/O1

## WE-VS-SMD 2220,82552400
designator D?, comment 56.0V
ESD Suppressor WE-VS-SMD, VDC=56.0V; PartNo: 82552400; Manufacturer: Würth Elektronik eiSos GmbH; Reverse Stand Off Voltage: 56.0V; ComponentLink1Description: Manufacturer; ComponentLink1URL: http://www.we-online.de; Created by: Christin Zierenner; Created Date: March 2010; ComponentLink2Description: Datasheet; ComponentLink2URL: http://katalog.we-online.de/kataloge/eisos/media/pdf/82552400.pdf
footprint 2220 (2220, 2-Leads, Body 9.4x5.7mm, Pitch 6.7mm)
pins: 1 I/O1, 2 I/O1